# Altium footprint library WE-VEA.PcbLib: 2 footprints
Each footprint in its own frame and in the unit in brackets; x right, y up, seen from the top. Pads: shape width x height; smd on the part's side, far side on the other; paste and mask are expansions set on the pad; w line width, h text height; cw(c..) or ccw(c..) is an arc to the next point about the centre after c.
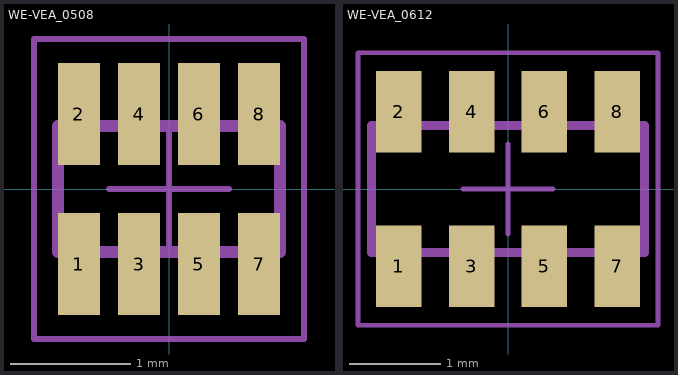
[diagram p0: the footprints below, top view; thin cyan lines are the x and y axes]

## WE-VEA_0508 [mm] "ESD Suppressor-Array, body 1.85x1.05mm"
height 0.8
pads (8):
  rect 0.35x0.85 smd: 1(-0.75,-0.625) 2(-0.75,0.625) 3(-0.25,-0.625) 4(-0.25,0.625) 5(0.25,-0.625) 6(0.25,0.625) 7(0.75,-0.625) 8(0.75,0.625)
Top Designator:
  text ".Designator" at -2.499,-0.167 h0.5
Top Component Outline:
  lines w0.1: -0.925,-0.525 0.925,-0.525 0.925,0.525 -0.925,0.525 -0.925,-0.525
Top Courtyard:
  lines w0.05: -0.5,0 0.5,0 ; 0,-0.5 0,0.5 ; -1.125,-1.25 1.125,-1.25 1.125,1.25 -1.125,1.25 -1.125,-1.25
3D body "WE-VEA_0508.stp": height 0.72, standoff 0, extent -1,-0.662 1,0.663

## WE-VEA_0612 [mm] "ESD Suppressor-Array, body 3x1.4mm"
height 0.95
pads (8):
  rect 0.5x0.9 smd: 1(-1.2,-0.85) 2(-1.2,0.85) 3(-0.4,-0.85) 4(-0.4,0.85) 5(0.4,-0.85) 6(0.4,0.85) 7(1.2,-0.85) 8(1.2,0.85)
Top Designator:
  text ".Designator" at -3.499,-0.233 h0.7
Top Component Outline:
  lines w0.1: -1.5,-0.7 1.5,-0.7 1.5,0.7 -1.5,0.7 -1.5,-0.7
Top Courtyard:
  lines w0.05: -0.5,0 0.5,0 ; 0,-0.5 0,0.5 ; -1.65,-1.5 1.65,-1.5 1.65,1.5 -1.65,1.5 -1.65,-1.5
3D body "WE-VEA_0612.stp": height 0.84, standoff -0.01, extent -1.6,-0.9 1.6,0.9